# Altium footprint library QFP_Sq_65P_Side_L.PcbLib: 15 footprints
Each footprint in its own frame and in the unit in brackets; x right, y up, seen from the top. Pads: shape width x height; smd on the part's side, far side on the other; paste and mask are expansions set on the pad; w line width, h text height; cw(c..) or ccw(c..) is an arc to the next point about the centre after c.
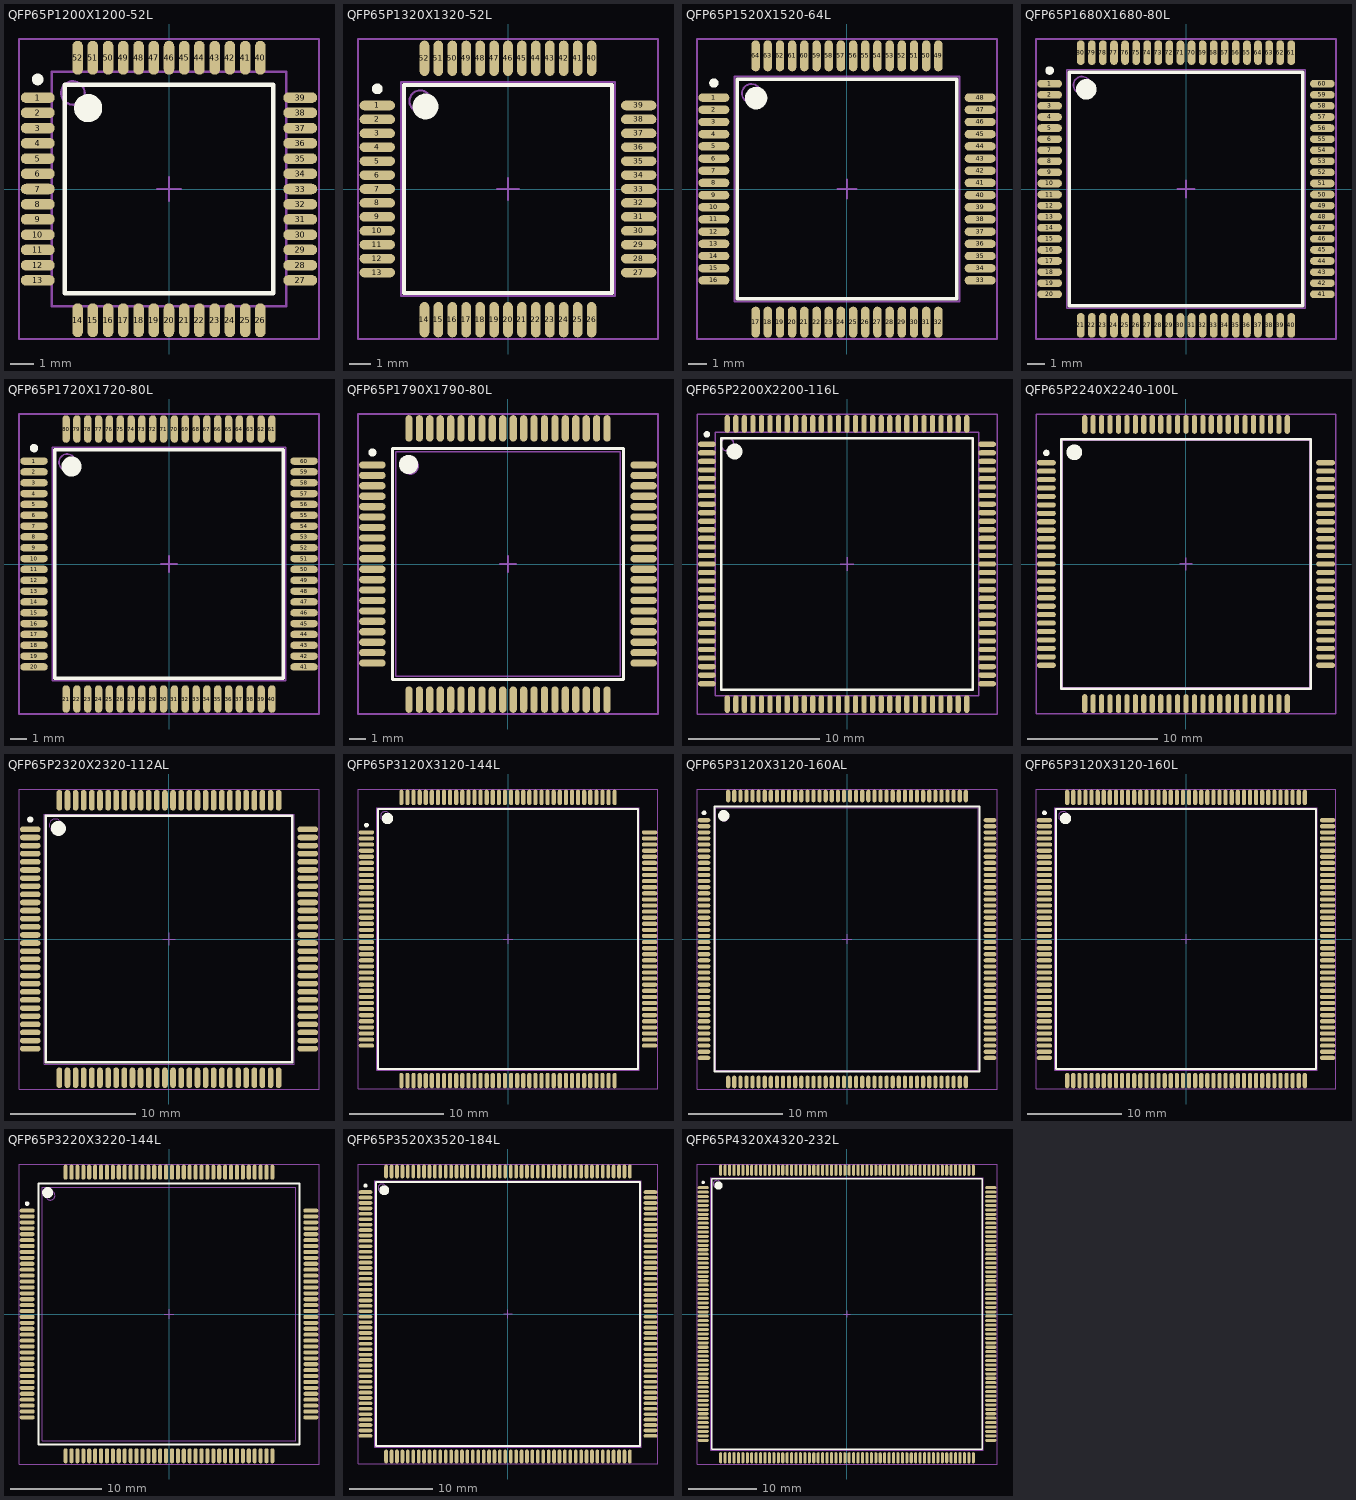
[diagram p0: the footprints below, top view; thin cyan lines are the x and y axes]

## QFP65P1200X1200-52L [mm] "QFP, 52-Leads, Body 10 x 10mm, Pitch 0.65mm, IPC High Density"
height 1.7
pads (52):
  oval 1.45x0.45 smd: 1(-5.6,3.9) 2(-5.6,3.25) 3(-5.6,2.6) 4(-5.6,1.95) 5(-5.6,1.3) 6(-5.6,0.65) 7(-5.6,0) 8(-5.6,-0.65) 9(-5.6,-1.3) 10(-5.6,-1.95) 11(-5.6,-2.6) 12(-5.6,-3.25) 13(-5.6,-3.9) 27(5.6,-3.9) 28(5.6,-3.25) 29(5.6,-2.6) 30(5.6,-1.95) 31(5.6,-1.3) 32(5.6,-0.65) 33(5.6,0) 34(5.6,0.65) 35(5.6,1.3) 36(5.6,1.95) 37(5.6,2.6) 38(5.6,3.25) 39(5.6,3.9)
  oval 0.45x1.45 smd: 14(-3.9,-5.6) 15(-3.25,-5.6) 16(-2.6,-5.6) 17(-1.95,-5.6) 18(-1.3,-5.6) 19(-0.65,-5.6) 20(0,-5.6) 21(0.65,-5.6) 22(1.3,-5.6) 23(1.95,-5.6) 24(2.6,-5.6) 25(3.25,-5.6) 26(3.9,-5.6) 40(3.9,5.6) 41(3.25,5.6) 42(2.6,5.6) 43(1.95,5.6) 44(1.3,5.6) 45(0.65,5.6) 46(0,5.6) 47(-0.65,5.6) 48(-1.3,5.6) 49(-1.95,5.6) 50(-2.6,5.6) 51(-3.25,5.6) 52(-3.9,5.6)
Top Overlay:
  circle w0.25: c-5.6,4.675 r0.125
  circle w0.6: c-3.45,3.45 r0.3
  lines w0.2: -4.45,-4.45 -4.45,4.45 4.45,4.45 4.45,-4.45 -4.45,-4.45
Mechanical 13:
  circle w0.1: c-4.1,4.1 r0.5
  lines w0.1: -5,-5 -5,5 5,5 5,-5 -5,-5
Mechanical 15:
  lines w0.1: -0.5,0 0.5,0 ; 0,-0.5 0,0.5 ; -6.4,-6.4 -6.4,6.4 6.4,6.4 6.4,-6.4 -6.4,-6.4
3D body: height 1.7, standoff 0, extent -5,-5 5,5

## QFP65P1320X1320-52L [mm] "QFP, 52-Leads, Body 10 x 10mm, Pitch 0.65mm, IPC High Density"
height 2.45
pads (52):
  oval 1.65x0.45 smd: 1(-6.1,3.9) 2(-6.1,3.25) 3(-6.1,2.6) 4(-6.1,1.95) 5(-6.1,1.3) 6(-6.1,0.65) 7(-6.1,0) 8(-6.1,-0.65) 9(-6.1,-1.3) 10(-6.1,-1.95) 11(-6.1,-2.6) 12(-6.1,-3.25) 13(-6.1,-3.9) 27(6.1,-3.9) 28(6.1,-3.25) 29(6.1,-2.6) 30(6.1,-1.95) 31(6.1,-1.3) 32(6.1,-0.65) 33(6.1,0) 34(6.1,0.65) 35(6.1,1.3) 36(6.1,1.95) 37(6.1,2.6) 38(6.1,3.25) 39(6.1,3.9)
  oval 0.45x1.65 smd: 14(-3.9,-6.1) 15(-3.25,-6.1) 16(-2.6,-6.1) 17(-1.95,-6.1) 18(-1.3,-6.1) 19(-0.65,-6.1) 20(0,-6.1) 21(0.65,-6.1) 22(1.3,-6.1) 23(1.95,-6.1) 24(2.6,-6.1) 25(3.25,-6.1) 26(3.9,-6.1) 40(3.9,6.1) 41(3.25,6.1) 42(2.6,6.1) 43(1.95,6.1) 44(1.3,6.1) 45(0.65,6.1) 46(0,6.1) 47(-0.65,6.1) 48(-1.3,6.1) 49(-1.95,6.1) 50(-2.6,6.1) 51(-3.25,6.1) 52(-3.9,6.1)
Top Overlay:
  circle w0.6: c-3.85,3.85 r0.3
  circle w0.25: c-6.1,4.675 r0.125
  lines w0.2: -4.85,-4.85 4.85,-4.85 4.85,4.85 -4.85,4.85 -4.85,-4.85
Mechanical 13:
  circle w0.1: c-4.1,4.1 r0.5
  lines w0.1: -5,-5 5,-5 5,5 -5,5 -5,-5
Mechanical 15:
  lines w0.1: -0.5,0 0.5,0 ; 0,-0.5 0,0.5 ; -7,-7 7,-7 7,7 -7,7 -7,-7
3D body: height 2.45, standoff 0, extent -5,-5 5,5

## QFP65P1520X1520-64L [mm] "QFP, 64-Leads, Body 12 x 12 mm, Pitch 0.65mm, IPC High Density"
height 2.45
pads (64):
  oval 1.65x0.45 smd: 1(-7.1,4.875) 2(-7.1,4.225) 3(-7.1,3.575) 4(-7.1,2.925) 5(-7.1,2.275) 6(-7.1,1.625) 7(-7.1,0.975) 8(-7.1,0.325) 9(-7.1,-0.325) 10(-7.1,-0.975) 11(-7.1,-1.625) 12(-7.1,-2.275) 13(-7.1,-2.925) 14(-7.1,-3.575) 15(-7.1,-4.225) 16(-7.1,-4.875) 33(7.1,-4.875) 34(7.1,-4.225) 35(7.1,-3.575) 36(7.1,-2.925) 37(7.1,-2.275) 38(7.1,-1.625) 39(7.1,-0.975) 40(7.1,-0.325) 41(7.1,0.325) 42(7.1,0.975) 43(7.1,1.625) 44(7.1,2.275) 45(7.1,2.925) 46(7.1,3.575) 47(7.1,4.225) 48(7.1,4.875)
  oval 0.45x1.65 smd: 17(-4.875,-7.1) 18(-4.225,-7.1) 19(-3.575,-7.1) 20(-2.925,-7.1) 21(-2.275,-7.1) 22(-1.625,-7.1) 23(-0.975,-7.1) 24(-0.325,-7.1) 25(0.325,-7.1) 26(0.975,-7.1) 27(1.625,-7.1) 28(2.275,-7.1) 29(2.925,-7.1) 30(3.575,-7.1) 31(4.225,-7.1) 32(4.875,-7.1) 49(4.875,7.1) 50(4.225,7.1) 51(3.575,7.1) 52(2.925,7.1) 53(2.275,7.1) 54(1.625,7.1) 55(0.975,7.1) 56(0.325,7.1) 57(-0.325,7.1) 58(-0.975,7.1) 59(-1.625,7.1) 60(-2.275,7.1) 61(-2.925,7.1) 62(-3.575,7.1) 63(-4.225,7.1) 64(-4.875,7.1)
Top Overlay:
  circle w0.6: c-4.85,4.85 r0.3
  circle w0.25: c-7.1,5.65 r0.125
  lines w0.2: -5.85,-5.85 5.85,-5.85 5.85,5.85 -5.85,5.85 -5.85,-5.85
Mechanical 13:
  circle w0.1: c-5.1,5.1 r0.5
  lines w0.1: -6,-6 6,-6 6,6 -6,6 -6,-6
Mechanical 15:
  lines w0.1: -0.5,0 0.5,0 ; 0,-0.5 0,0.5 ; -8,-8 8,-8 8,8 -8,8 -8,-8
3D body: height 2.45, standoff 0, extent -6,-6 6,6

## QFP65P1680X1680-80L [mm] "80-Pin Quad Flat Pack 0.65 mm Pitch"
height 3.05
pads (80):
  oval 1.45x0.45 smd: 1(-8,6.175) 2(-8,5.525) 3(-8,4.875) 4(-8,4.225) 5(-8,3.575) 6(-8,2.925) 7(-8,2.275) 8(-8,1.625) 9(-8,0.975) 10(-8,0.325) 11(-8,-0.325) 12(-8,-0.975) 13(-8,-1.625) 14(-8,-2.275) 15(-8,-2.925) 16(-8,-3.575) 17(-8,-4.225) 18(-8,-4.875) 19(-8,-5.525) 20(-8,-6.175) 41(8,-6.175) 42(8,-5.525) 43(8,-4.875) 44(8,-4.225) 45(8,-3.575) 46(8,-2.925) 47(8,-2.275) 48(8,-1.625) 49(8,-0.975) 50(8,-0.325) 51(8,0.325) 52(8,0.975) 53(8,1.625) 54(8,2.275) 55(8,2.925) 56(8,3.575) 57(8,4.225) 58(8,4.875) 59(8,5.525) 60(8,6.175)
  oval 0.45x1.45 smd: 21(-6.175,-8) 22(-5.525,-8) 23(-4.875,-8) 24(-4.225,-8) 25(-3.575,-8) 26(-2.925,-8) 27(-2.275,-8) 28(-1.625,-8) 29(-0.975,-8) 30(-0.325,-8) 31(0.325,-8) 32(0.975,-8) 33(1.625,-8) 34(2.275,-8) 35(2.925,-8) 36(3.575,-8) 37(4.225,-8) 38(4.875,-8) 39(5.525,-8) 40(6.175,-8) 61(6.175,8) 62(5.525,8) 63(4.875,8) 64(4.225,8) 65(3.575,8) 66(2.925,8) 67(2.275,8) 68(1.625,8) 69(0.975,8) 70(0.325,8) 71(-0.325,8) 72(-0.975,8) 73(-1.625,8) 74(-2.275,8) 75(-2.925,8) 76(-3.575,8) 77(-4.225,8) 78(-4.875,8) 79(-5.525,8) 80(-6.175,8)
Top Overlay:
  circle w0.6: c-5.85,5.85 r0.3
  circle w0.25: c-8,6.95 r0.125
  lines w0.2: -6.85,-6.85 6.85,-6.85 6.85,6.85 -6.85,6.85 -6.85,-6.85
Mechanical 13:
  circle w0.1: c-6.1,6.1 r0.5
  lines w0.1: -7,-7 7,-7 7,7 -7,7 -7,-7
Mechanical 15:
  lines w0.1: -0.5,0 0.5,0 ; 0,-0.5 0,0.5 ; -8.8,-8.8 8.8,-8.8 8.8,8.8 -8.8,8.8 -8.8,-8.8
3D body: height 3.05, standoff 0, extent -7,-7 7,7

## QFP65P1720X1720-80L [mm] "QFP, 80-Leads, Body 14 x 14mm, Pitch 0.65mm, IPC High Density"
height 2.45
pads (80):
  oval 1.65x0.45 smd: 1(-8.1,6.175) 2(-8.1,5.525) 3(-8.1,4.875) 4(-8.1,4.225) 5(-8.1,3.575) 6(-8.1,2.925) 7(-8.1,2.275) 8(-8.1,1.625) 9(-8.1,0.975) 10(-8.1,0.325) 11(-8.1,-0.325) 12(-8.1,-0.975) 13(-8.1,-1.625) 14(-8.1,-2.275) 15(-8.1,-2.925) 16(-8.1,-3.575) 17(-8.1,-4.225) 18(-8.1,-4.875) 19(-8.1,-5.525) 20(-8.1,-6.175) 41(8.1,-6.175) 42(8.1,-5.525) 43(8.1,-4.875) 44(8.1,-4.225) 45(8.1,-3.575) 46(8.1,-2.925) 47(8.1,-2.275) 48(8.1,-1.625) 49(8.1,-0.975) 50(8.1,-0.325) 51(8.1,0.325) 52(8.1,0.975) 53(8.1,1.625) 54(8.1,2.275) 55(8.1,2.925) 56(8.1,3.575) 57(8.1,4.225) 58(8.1,4.875) 59(8.1,5.525) 60(8.1,6.175)
  oval 0.45x1.65 smd: 21(-6.175,-8.1) 22(-5.525,-8.1) 23(-4.875,-8.1) 24(-4.225,-8.1) 25(-3.575,-8.1) 26(-2.925,-8.1) 27(-2.275,-8.1) 28(-1.625,-8.1) 29(-0.975,-8.1) 30(-0.325,-8.1) 31(0.325,-8.1) 32(0.975,-8.1) 33(1.625,-8.1) 34(2.275,-8.1) 35(2.925,-8.1) 36(3.575,-8.1) 37(4.225,-8.1) 38(4.875,-8.1) 39(5.525,-8.1) 40(6.175,-8.1) 61(6.175,8.1) 62(5.525,8.1) 63(4.875,8.1) 64(4.225,8.1) 65(3.575,8.1) 66(2.925,8.1) 67(2.275,8.1) 68(1.625,8.1) 69(0.975,8.1) 70(0.325,8.1) 71(-0.325,8.1) 72(-0.975,8.1) 73(-1.625,8.1) 74(-2.275,8.1) 75(-2.925,8.1) 76(-3.575,8.1) 77(-4.225,8.1) 78(-4.875,8.1) 79(-5.525,8.1) 80(-6.175,8.1)
Top Overlay:
  circle w0.6: c-5.85,5.85 r0.3
  circle w0.25: c-8.1,6.95 r0.125
  lines w0.2: -6.85,-6.85 6.85,-6.85 6.85,6.85 -6.85,6.85 -6.85,-6.85
Mechanical 13:
  circle w0.1: c-6.1,6.1 r0.5
  lines w0.1: -7,-7 7,-7 7,7 -7,7 -7,-7
Mechanical 15:
  lines w0.1: -0.5,0 0.5,0 ; 0,-0.5 0,0.5 ; -9,-9 9,-9 9,9 -9,9 -9,-9
3D body: height 2.45, standoff 0, extent -7,-7 7,7

## QFP65P1790X1790-80L [mm] "QFP, 80-Leads, Body 14 x 14mm, Pitch 0.65mm, IPC High Density"
height 3.4
pads (80):
  oval 1.65x0.45 smd: 1(-8.45,6.175) 2(-8.45,5.525) 3(-8.45,4.875) 4(-8.45,4.225) 5(-8.45,3.575) 6(-8.45,2.925) 7(-8.45,2.275) 8(-8.45,1.625) 9(-8.45,0.975) 10(-8.45,0.325) 11(-8.45,-0.325) 12(-8.45,-0.975) 13(-8.45,-1.625) 14(-8.45,-2.275) 15(-8.45,-2.925) 16(-8.45,-3.575) 17(-8.45,-4.225) 18(-8.45,-4.875) 19(-8.45,-5.525) 20(-8.45,-6.175) 41(8.45,-6.175) 42(8.45,-5.525) 43(8.45,-4.875) 44(8.45,-4.225) 45(8.45,-3.575) 46(8.45,-2.925) 47(8.45,-2.275) 48(8.45,-1.625) 49(8.45,-0.975) 50(8.45,-0.325) 51(8.45,0.325) 52(8.45,0.975) 53(8.45,1.625) 54(8.45,2.275) 55(8.45,2.925) 56(8.45,3.575) 57(8.45,4.225) 58(8.45,4.875) 59(8.45,5.525) 60(8.45,6.175)
  oval 0.45x1.65 smd: 21(-6.175,-8.45) 22(-5.525,-8.45) 23(-4.875,-8.45) 24(-4.225,-8.45) 25(-3.575,-8.45) 26(-2.925,-8.45) 27(-2.275,-8.45) 28(-1.625,-8.45) 29(-0.975,-8.45) 30(-0.325,-8.45) 31(0.325,-8.45) 32(0.975,-8.45) 33(1.625,-8.45) 34(2.275,-8.45) 35(2.925,-8.45) 36(3.575,-8.45) 37(4.225,-8.45) 38(4.875,-8.45) 39(5.525,-8.45) 40(6.175,-8.45) 61(6.175,8.45) 62(5.525,8.45) 63(4.875,8.45) 64(4.225,8.45) 65(3.575,8.45) 66(2.925,8.45) 67(2.275,8.45) 68(1.625,8.45) 69(0.975,8.45) 70(0.325,8.45) 71(-0.325,8.45) 72(-0.975,8.45) 73(-1.625,8.45) 74(-2.275,8.45) 75(-2.925,8.45) 76(-3.575,8.45) 77(-4.225,8.45) 78(-4.875,8.45) 79(-5.525,8.45) 80(-6.175,8.45)
Top Overlay:
  circle w0.6: c-6.2,6.2 r0.3
  circle w0.25: c-8.45,6.95 r0.125
  lines w0.2: -7.2,-7.2 7.2,-7.2 7.2,7.2 -7.2,7.2 -7.2,-7.2
Mechanical 13:
  circle w0.1: c-6.1,6.1 r0.5
  lines w0.1: -7,-7 7,-7 7,7 -7,7 -7,-7
Mechanical 15:
  lines w0.1: -0.5,0 0.5,0 ; 0,-0.5 0,0.5 ; -9.35,-9.35 9.35,-9.35 9.35,9.35 -9.35,9.35 -9.35,-9.35
3D body: height 3.4, standoff 0, extent -7,-7 7,7

## QFP65P2200X2200-116L [mm] "116-Pin Quad Flat Pack 0.65 mm Pitch"
height 1.7
pads (116):
  oval 1.35x0.4 smd: 1(-10.65,9.1) 2(-10.65,8.45) 3(-10.65,7.8) 4(-10.65,7.15) 5(-10.65,6.5) 6(-10.65,5.85) 7(-10.65,5.2) 8(-10.65,4.55) 9(-10.65,3.9) 10(-10.65,3.25) 11(-10.65,2.6) 12(-10.65,1.95) 13(-10.65,1.3) 14(-10.65,0.65) 15(-10.65,0) 16(-10.65,-0.65) 17(-10.65,-1.3) 18(-10.65,-1.95) 19(-10.65,-2.6) 20(-10.65,-3.25) 21(-10.65,-3.9) 22(-10.65,-4.55) 23(-10.65,-5.2) 24(-10.65,-5.85) 25(-10.65,-6.5) 26(-10.65,-7.15) 27(-10.65,-7.8) 28(-10.65,-8.45) 29(-10.65,-9.1) 59(10.65,-9.1) 60(10.65,-8.45) 61(10.65,-7.8) 62(10.65,-7.15) 63(10.65,-6.5) 64(10.65,-5.85) 65(10.65,-5.2) 66(10.65,-4.55) 67(10.65,-3.9) 68(10.65,-3.25) 69(10.65,-2.6) 70(10.65,-1.95) 71(10.65,-1.3) 72(10.65,-0.65) 73(10.65,0) 74(10.65,0.65) 75(10.65,1.3) 76(10.65,1.95) 77(10.65,2.6) 78(10.65,3.25) 79(10.65,3.9) 80(10.65,4.55) 81(10.65,5.2) 82(10.65,5.85) 83(10.65,6.5) 84(10.65,7.15) 85(10.65,7.8) 86(10.65,8.45) 87(10.65,9.1)
  oval 0.4x1.35 smd: 30(-9.1,-10.65) 31(-8.45,-10.65) 32(-7.8,-10.65) 33(-7.15,-10.65) 34(-6.5,-10.65) 35(-5.85,-10.65) 36(-5.2,-10.65) 37(-4.55,-10.65) 38(-3.9,-10.65) 39(-3.25,-10.65) 40(-2.6,-10.65) 41(-1.95,-10.65) 42(-1.3,-10.65) 43(-0.65,-10.65) 44(0,-10.65) 45(0.65,-10.65) 46(1.3,-10.65) 47(1.95,-10.65) 48(2.6,-10.65) 49(3.25,-10.65) 50(3.9,-10.65) 51(4.55,-10.65) 52(5.2,-10.65) 53(5.85,-10.65) 54(6.5,-10.65) 55(7.15,-10.65) 56(7.8,-10.65) 57(8.45,-10.65) 58(9.1,-10.65) 88(9.1,10.65) 89(8.45,10.65) 90(7.8,10.65) 91(7.15,10.65) 92(6.5,10.65) 93(5.85,10.65) 94(5.2,10.65) 95(4.55,10.65) 96(3.9,10.65) 97(3.25,10.65) 98(2.6,10.65) 99(1.95,10.65) 100(1.3,10.65) 101(0.65,10.65) 102(0,10.65) 103(-0.65,10.65) 104(-1.3,10.65) 105(-1.95,10.65) 106(-2.6,10.65) 107(-3.25,10.65) 108(-3.9,10.65) 109(-4.55,10.65) 110(-5.2,10.65) 111(-5.85,10.65) 112(-6.5,10.65) 113(-7.15,10.65) 114(-7.8,10.65) 115(-8.45,10.65) 116(-9.1,10.65)
Top Overlay:
  circle w0.6: c-8.55,8.55 r0.3
  circle w0.25: c-10.65,9.85 r0.125
  lines w0.2: -9.55,-9.55 9.55,-9.55 9.55,9.55 -9.55,9.55 -9.55,-9.55
Mechanical 13:
  circle w0.1: c-9.1,9.1 r0.5
  lines w0.1: -10,-10 10,-10 10,10 -10,10 -10,-10
Mechanical 15:
  lines w0.1: -0.5,0 0.5,0 ; 0,-0.5 0,0.5 ; -11.4,-11.4 11.4,-11.4 11.4,11.4 -11.4,11.4 -11.4,-11.4
3D body: height 1.7, standoff 0, extent -10,-10 10,10

## QFP65P2240X2240-100L [mm] "100-Pin Quad Flat Pack 0.65 mm Pitch"
height 4.07
pads (100):
  oval 1.45x0.4 smd: 1(-10.75,7.8) 2(-10.75,7.15) 3(-10.75,6.5) 4(-10.75,5.85) 5(-10.75,5.2) 6(-10.75,4.55) 7(-10.75,3.9) 8(-10.75,3.25) 9(-10.75,2.6) 10(-10.75,1.95) 11(-10.75,1.3) 12(-10.75,0.65) 13(-10.75,0) 14(-10.75,-0.65) 15(-10.75,-1.3) 16(-10.75,-1.95) 17(-10.75,-2.6) 18(-10.75,-3.25) 19(-10.75,-3.9) 20(-10.75,-4.55) 21(-10.75,-5.2) 22(-10.75,-5.85) 23(-10.75,-6.5) 24(-10.75,-7.15) 25(-10.75,-7.8) 51(10.75,-7.8) 52(10.75,-7.15) 53(10.75,-6.5) 54(10.75,-5.85) 55(10.75,-5.2) 56(10.75,-4.55) 57(10.75,-3.9) 58(10.75,-3.25) 59(10.75,-2.6) 60(10.75,-1.95) 61(10.75,-1.3) 62(10.75,-0.65) 63(10.75,0) 64(10.75,0.65) 65(10.75,1.3) 66(10.75,1.95) 67(10.75,2.6) 68(10.75,3.25) 69(10.75,3.9) 70(10.75,4.55) 71(10.75,5.2) 72(10.75,5.85) 73(10.75,6.5) 74(10.75,7.15) 75(10.75,7.8)
  oval 0.4x1.45 smd: 26(-7.8,-10.75) 27(-7.15,-10.75) 28(-6.5,-10.75) 29(-5.85,-10.75) 30(-5.2,-10.75) 31(-4.55,-10.75) 32(-3.9,-10.75) 33(-3.25,-10.75) 34(-2.6,-10.75) 35(-1.95,-10.75) 36(-1.3,-10.75) 37(-0.65,-10.75) 38(0,-10.75) 39(0.65,-10.75) 40(1.3,-10.75) 41(1.95,-10.75) 42(2.6,-10.75) 43(3.25,-10.75) 44(3.9,-10.75) 45(4.55,-10.75) 46(5.2,-10.75) 47(5.85,-10.75) 48(6.5,-10.75) 49(7.15,-10.75) 50(7.8,-10.75) 76(7.8,10.75) 77(7.15,10.75) 78(6.5,10.75) 79(5.85,10.75) 80(5.2,10.75) 81(4.55,10.75) 82(3.9,10.75) 83(3.25,10.75) 84(2.6,10.75) 85(1.95,10.75) 86(1.3,10.75) 87(0.65,10.75) 88(0,10.75) 89(-0.65,10.75) 90(-1.3,10.75) 91(-1.95,10.75) 92(-2.6,10.75) 93(-3.25,10.75) 94(-3.9,10.75) 95(-4.55,10.75) 96(-5.2,10.75) 97(-5.85,10.75) 98(-6.5,10.75) 99(-7.15,10.75) 100(-7.8,10.75)
Top Overlay:
  circle w0.6: c-8.6,8.6 r0.3
  circle w0.25: c-10.75,8.55 r0.125
  lines w0.2: -9.6,-9.6 9.6,-9.6 9.6,9.6 -9.6,9.6 -9.6,-9.6
Mechanical 13:
  circle w0.1: c-8.625,8.625 r0.5
  lines w0.1: -9.525,-9.525 9.525,-9.525 9.525,9.525 -9.525,9.525 -9.525,-9.525
Mechanical 15:
  lines w0.1: -0.5,0 0.5,0 ; 0,-0.5 0,0.5 ; -11.55,-11.55 11.55,-11.55 11.55,11.55 -11.55,11.55 -11.55,-11.55
3D body: height 4.07, standoff 0, extent -9.525,-9.525 9.525,9.525

## QFP65P2320X2320-112AL [mm] "QFP, 112-Leads, Body 20 x 20mm, Pitch 0.65mm, IPC High Density"
height 3.4
pads (112):
  oval 1.65x0.45 smd: 1(-11.1,8.775) 2(-11.1,8.125) 3(-11.1,7.475) 4(-11.1,6.825) 5(-11.1,6.175) 6(-11.1,5.525) 7(-11.1,4.875) 8(-11.1,4.225) 9(-11.1,3.575) 10(-11.1,2.925) 11(-11.1,2.275) 12(-11.1,1.625) 13(-11.1,0.975) 14(-11.1,0.325) 15(-11.1,-0.325) 16(-11.1,-0.975) 17(-11.1,-1.625) 18(-11.1,-2.275) 19(-11.1,-2.925) 20(-11.1,-3.575) 21(-11.1,-4.225) 22(-11.1,-4.875) 23(-11.1,-5.525) 24(-11.1,-6.175) 25(-11.1,-6.825) 26(-11.1,-7.475) 27(-11.1,-8.125) 28(-11.1,-8.775) 57(11.1,-8.775) 58(11.1,-8.125) 59(11.1,-7.475) 60(11.1,-6.825) 61(11.1,-6.175) 62(11.1,-5.525) 63(11.1,-4.875) 64(11.1,-4.225) 65(11.1,-3.575) 66(11.1,-2.925) 67(11.1,-2.275) 68(11.1,-1.625) 69(11.1,-0.975) 70(11.1,-0.325) 71(11.1,0.325) 72(11.1,0.975) 73(11.1,1.625) 74(11.1,2.275) 75(11.1,2.925) 76(11.1,3.575) 77(11.1,4.225) 78(11.1,4.875) 79(11.1,5.525) 80(11.1,6.175) 81(11.1,6.825) 82(11.1,7.475) 83(11.1,8.125) 84(11.1,8.775)
  oval 0.45x1.65 smd: 29(-8.775,-11.1) 30(-8.125,-11.1) 31(-7.475,-11.1) 32(-6.825,-11.1) 33(-6.175,-11.1) 34(-5.525,-11.1) 35(-4.875,-11.1) 36(-4.225,-11.1) 37(-3.575,-11.1) 38(-2.925,-11.1) 39(-2.275,-11.1) 40(-1.625,-11.1) 41(-0.975,-11.1) 42(-0.325,-11.1) 43(0.325,-11.1) 44(0.975,-11.1) 45(1.625,-11.1) 46(2.275,-11.1) 47(2.925,-11.1) 48(3.575,-11.1) 49(4.225,-11.1) 50(4.875,-11.1) 51(5.525,-11.1) 52(6.175,-11.1) 53(6.825,-11.1) 54(7.475,-11.1) 55(8.125,-11.1) 56(8.775,-11.1) 85(8.775,11.1) 86(8.125,11.1) 87(7.475,11.1) 88(6.825,11.1) 89(6.175,11.1) 90(5.525,11.1) 91(4.875,11.1) 92(4.225,11.1) 93(3.575,11.1) 94(2.925,11.1) 95(2.275,11.1) 96(1.625,11.1) 97(0.975,11.1) 98(0.325,11.1) 99(-0.325,11.1) 100(-0.975,11.1) 101(-1.625,11.1) 102(-2.275,11.1) 103(-2.925,11.1) 104(-3.575,11.1) 105(-4.225,11.1) 106(-4.875,11.1) 107(-5.525,11.1) 108(-6.175,11.1) 109(-6.825,11.1) 110(-7.475,11.1) 111(-8.125,11.1) 112(-8.775,11.1)
Top Overlay:
  circle w0.25: c-11.1,9.55 r0.125
  circle w0.6: c-8.85,8.85 r0.3
  lines w0.2: -9.85,-9.85 -9.85,9.85 9.85,9.85 9.85,-9.85 -9.85,-9.85
Mechanical 13:
  circle w0.1: c-9.1,9.1 r0.5
  lines w0.1: -10,-10 -10,10 10,10 10,-10 -10,-10
Mechanical 15:
  lines w0.1: -0.5,0 0.5,0 ; 0,-0.5 0,0.5 ; -12,-12 -12,12 12,12 12,-12 -12,-12
3D body: height 3.4, standoff 0, extent -10,-10 10,10

## QFP65P3120X3120-144L [mm] "QFP, 144-Leads, Body 28 x 28mm, Pitch 0.65mm, IPC High Density"
height 4.1
pads (144):
  oval 1.65x0.45 smd: 1(-15.1,11.375) 2(-15.1,10.725) 3(-15.1,10.075) 4(-15.1,9.425) 5(-15.1,8.775) 6(-15.1,8.125) 7(-15.1,7.475) 8(-15.1,6.825) 9(-15.1,6.175) 10(-15.1,5.525) 11(-15.1,4.875) 12(-15.1,4.225) 13(-15.1,3.575) 14(-15.1,2.925) 15(-15.1,2.275) 16(-15.1,1.625) 17(-15.1,0.975) 18(-15.1,0.325) 19(-15.1,-0.325) 20(-15.1,-0.975) 21(-15.1,-1.625) 22(-15.1,-2.275) 23(-15.1,-2.925) 24(-15.1,-3.575) 25(-15.1,-4.225) 26(-15.1,-4.875) 27(-15.1,-5.525) 28(-15.1,-6.175) 29(-15.1,-6.825) 30(-15.1,-7.475) 31(-15.1,-8.125) 32(-15.1,-8.775) 33(-15.1,-9.425) 34(-15.1,-10.075) 35(-15.1,-10.725) 36(-15.1,-11.375) 73(15.1,-11.375) 74(15.1,-10.725) 75(15.1,-10.075) 76(15.1,-9.425) 77(15.1,-8.775) 78(15.1,-8.125) 79(15.1,-7.475) 80(15.1,-6.825) 81(15.1,-6.175) 82(15.1,-5.525) 83(15.1,-4.875) 84(15.1,-4.225) 85(15.1,-3.575) 86(15.1,-2.925) 87(15.1,-2.275) 88(15.1,-1.625) 89(15.1,-0.975) 90(15.1,-0.325) 91(15.1,0.325) 92(15.1,0.975) 93(15.1,1.625) 94(15.1,2.275) 95(15.1,2.925) 96(15.1,3.575) 97(15.1,4.225) 98(15.1,4.875) 99(15.1,5.525) 100(15.1,6.175) 101(15.1,6.825) 102(15.1,7.475) 103(15.1,8.125) 104(15.1,8.775) 105(15.1,9.425) 106(15.1,10.075) 107(15.1,10.725) 108(15.1,11.375)
  oval 0.45x1.65 smd: 37(-11.375,-15.1) 38(-10.725,-15.1) 39(-10.075,-15.1) 40(-9.425,-15.1) 41(-8.775,-15.1) 42(-8.125,-15.1) 43(-7.475,-15.1) 44(-6.825,-15.1) 45(-6.175,-15.1) 46(-5.525,-15.1) 47(-4.875,-15.1) 48(-4.225,-15.1) 49(-3.575,-15.1) 50(-2.925,-15.1) 51(-2.275,-15.1) 52(-1.625,-15.1) 53(-0.975,-15.1) 54(-0.325,-15.1) 55(0.325,-15.1) 56(0.975,-15.1) 57(1.625,-15.1) 58(2.275,-15.1) 59(2.925,-15.1) 60(3.575,-15.1) 61(4.225,-15.1) 62(4.875,-15.1) 63(5.525,-15.1) 64(6.175,-15.1) 65(6.825,-15.1) 66(7.475,-15.1) 67(8.125,-15.1) 68(8.775,-15.1) 69(9.425,-15.1) 70(10.075,-15.1) 71(10.725,-15.1) 72(11.375,-15.1) 109(11.375,15.1) 110(10.725,15.1) 111(10.075,15.1) 112(9.425,15.1) 113(8.775,15.1) 114(8.125,15.1) 115(7.475,15.1) 116(6.825,15.1) 117(6.175,15.1) 118(5.525,15.1) 119(4.875,15.1) 120(4.225,15.1) 121(3.575,15.1) 122(2.925,15.1) 123(2.275,15.1) 124(1.625,15.1) 125(0.975,15.1) 126(0.325,15.1) 127(-0.325,15.1) 128(-0.975,15.1) 129(-1.625,15.1) 130(-2.275,15.1) 131(-2.925,15.1) 132(-3.575,15.1) 133(-4.225,15.1) 134(-4.875,15.1) 135(-5.525,15.1) 136(-6.175,15.1) 137(-6.825,15.1) 138(-7.475,15.1) 139(-8.125,15.1) 140(-8.775,15.1) 141(-9.425,15.1) 142(-10.075,15.1) 143(-10.725,15.1) 144(-11.375,15.1)
Top Overlay:
  circle w0.6: c-12.85,12.85 r0.3
  circle w0.25: c-15.1,12.15 r0.125
  lines w0.2: -13.85,-13.85 13.85,-13.85 13.85,13.85 -13.85,13.85 -13.85,-13.85
Mechanical 13:
  circle w0.1: c-13.1,13.1 r0.5
  lines w0.1: -14,-14 14,-14 14,14 -14,14 -14,-14
Mechanical 15:
  lines w0.1: -0.5,0 0.5,0 ; 0,-0.5 0,0.5 ; -16,-16 16,-16 16,16 -16,16 -16,-16
3D body: height 4.1, standoff 0, extent -14,-14 14,14

## QFP65P3120X3120-160AL [mm] "QFP, 160-Leads, Body 28 x 28mm, Pitch 0.65mm, IPC High Density"
height 2.79
pads (160):
  oval 1.35x0.45 smd: 1(-15.25,12.675) 2(-15.25,12.025) 3(-15.25,11.375) 4(-15.25,10.725) 5(-15.25,10.075) 6(-15.25,9.425) 7(-15.25,8.775) 8(-15.25,8.125) 9(-15.25,7.475) 10(-15.25,6.825) 11(-15.25,6.175) 12(-15.25,5.525) 13(-15.25,4.875) 14(-15.25,4.225) 15(-15.25,3.575) 16(-15.25,2.925) 17(-15.25,2.275) 18(-15.25,1.625) 19(-15.25,0.975) 20(-15.25,0.325) 21(-15.25,-0.325) 22(-15.25,-0.975) 23(-15.25,-1.625) 24(-15.25,-2.275) 25(-15.25,-2.925) 26(-15.25,-3.575) 27(-15.25,-4.225) 28(-15.25,-4.875) 29(-15.25,-5.525) 30(-15.25,-6.175) 31(-15.25,-6.825) 32(-15.25,-7.475) 33(-15.25,-8.125) 34(-15.25,-8.775) 35(-15.25,-9.425) 36(-15.25,-10.075) 37(-15.25,-10.725) 38(-15.25,-11.375) 39(-15.25,-12.025) 40(-15.25,-12.675) 81(15.25,-12.675) 82(15.25,-12.025) 83(15.25,-11.375) 84(15.25,-10.725) 85(15.25,-10.075) 86(15.25,-9.425) 87(15.25,-8.775) 88(15.25,-8.125) 89(15.25,-7.475) 90(15.25,-6.825) 91(15.25,-6.175) 92(15.25,-5.525) 93(15.25,-4.875) 94(15.25,-4.225) 95(15.25,-3.575) 96(15.25,-2.925) 97(15.25,-2.275) 98(15.25,-1.625) 99(15.25,-0.975) 100(15.25,-0.325) 101(15.25,0.325) 102(15.25,0.975) 103(15.25,1.625) 104(15.25,2.275) 105(15.25,2.925) 106(15.25,3.575) 107(15.25,4.225) 108(15.25,4.875) 109(15.25,5.525) 110(15.25,6.175) 111(15.25,6.825) 112(15.25,7.475) 113(15.25,8.125) 114(15.25,8.775) 115(15.25,9.425) 116(15.25,10.075) 117(15.25,10.725) 118(15.25,11.375) 119(15.25,12.025) 120(15.25,12.675)
  oval 0.45x1.35 smd: 41(-12.675,-15.25) 42(-12.025,-15.25) 43(-11.375,-15.25) 44(-10.725,-15.25) 45(-10.075,-15.25) 46(-9.425,-15.25) 47(-8.775,-15.25) 48(-8.125,-15.25) 49(-7.475,-15.25) 50(-6.825,-15.25) 51(-6.175,-15.25) 52(-5.525,-15.25) 53(-4.875,-15.25) 54(-4.225,-15.25) 55(-3.575,-15.25) 56(-2.925,-15.25) 57(-2.275,-15.25) 58(-1.625,-15.25) 59(-0.975,-15.25) 60(-0.325,-15.25) 61(0.325,-15.25) 62(0.975,-15.25) 63(1.625,-15.25) 64(2.275,-15.25) 65(2.925,-15.25) 66(3.575,-15.25) 67(4.225,-15.25) 68(4.875,-15.25) 69(5.525,-15.25) 70(6.175,-15.25) 71(6.825,-15.25) 72(7.475,-15.25) 73(8.125,-15.25) 74(8.775,-15.25) 75(9.425,-15.25) 76(10.075,-15.25) 77(10.725,-15.25) 78(11.375,-15.25) 79(12.025,-15.25) 80(12.675,-15.25) 121(12.675,15.25) 122(12.025,15.25) 123(11.375,15.25) 124(10.725,15.25) 125(10.075,15.25) 126(9.425,15.25) 127(8.775,15.25) 128(8.125,15.25) 129(7.475,15.25) 130(6.825,15.25) 131(6.175,15.25) 132(5.525,15.25) 133(4.875,15.25) 134(4.225,15.25) 135(3.575,15.25) 136(2.925,15.25) 137(2.275,15.25) 138(1.625,15.25) 139(0.975,15.25) 140(0.325,15.25) 141(-0.325,15.25) 142(-0.975,15.25) 143(-1.625,15.25) 144(-2.275,15.25) 145(-2.925,15.25) 146(-3.575,15.25) 147(-4.225,15.25) 148(-4.875,15.25) 149(-5.525,15.25) 150(-6.175,15.25) 151(-6.825,15.25) 152(-7.475,15.25) 153(-8.125,15.25) 154(-8.775,15.25) 155(-9.425,15.25) 156(-10.075,15.25) 157(-10.725,15.25) 158(-11.375,15.25) 159(-12.025,15.25) 160(-12.675,15.25)
Top Overlay:
  circle w0.6: c-13.15,13.15 r0.3
  circle w0.25: c-15.25,13.45 r0.125
  lines w0.2: -14.15,-14.15 14.15,-14.15 14.15,14.15 -14.15,14.15 -14.15,-14.15
Mechanical 13:
  circle w0.1: c-13.1,13.1 r0.5
  lines w0.1: -14,-14 14,-14 14,14 -14,14 -14,-14
Mechanical 15:
  lines w0.1: -0.5,0 0.5,0 ; 0,-0.5 0,0.5 ; -16,-16 16,-16 16,16 -16,16 -16,-16
3D body: height 2.79, standoff 0, extent -14,-14 14,14

## QFP65P3120X3120-160L [mm] "QFP, 160-Leads, Body 28 x 28mm, Pitch 0.65mm, IPC High Density"
height 4.1
pads (160):
  oval 1.65x0.45 smd: 1(-15.1,12.675) 2(-15.1,12.025) 3(-15.1,11.375) 4(-15.1,10.725) 5(-15.1,10.075) 6(-15.1,9.425) 7(-15.1,8.775) 8(-15.1,8.125) 9(-15.1,7.475) 10(-15.1,6.825) 11(-15.1,6.175) 12(-15.1,5.525) 13(-15.1,4.875) 14(-15.1,4.225) 15(-15.1,3.575) 16(-15.1,2.925) 17(-15.1,2.275) 18(-15.1,1.625) 19(-15.1,0.975) 20(-15.1,0.325) 21(-15.1,-0.325) 22(-15.1,-0.975) 23(-15.1,-1.625) 24(-15.1,-2.275) 25(-15.1,-2.925) 26(-15.1,-3.575) 27(-15.1,-4.225) 28(-15.1,-4.875) 29(-15.1,-5.525) 30(-15.1,-6.175) 31(-15.1,-6.825) 32(-15.1,-7.475) 33(-15.1,-8.125) 34(-15.1,-8.775) 35(-15.1,-9.425) 36(-15.1,-10.075) 37(-15.1,-10.725) 38(-15.1,-11.375) 39(-15.1,-12.025) 40(-15.1,-12.675) 81(15.1,-12.675) 82(15.1,-12.025) 83(15.1,-11.375) 84(15.1,-10.725) 85(15.1,-10.075) 86(15.1,-9.425) 87(15.1,-8.775) 88(15.1,-8.125) 89(15.1,-7.475) 90(15.1,-6.825) 91(15.1,-6.175) 92(15.1,-5.525) 93(15.1,-4.875) 94(15.1,-4.225) 95(15.1,-3.575) 96(15.1,-2.925) 97(15.1,-2.275) 98(15.1,-1.625) 99(15.1,-0.975) 100(15.1,-0.325) 101(15.1,0.325) 102(15.1,0.975) 103(15.1,1.625) 104(15.1,2.275) 105(15.1,2.925) 106(15.1,3.575) 107(15.1,4.225) 108(15.1,4.875) 109(15.1,5.525) 110(15.1,6.175) 111(15.1,6.825) 112(15.1,7.475) 113(15.1,8.125) 114(15.1,8.775) 115(15.1,9.425) 116(15.1,10.075) 117(15.1,10.725) 118(15.1,11.375) 119(15.1,12.025) 120(15.1,12.675)
  oval 0.45x1.65 smd: 41(-12.675,-15.1) 42(-12.025,-15.1) 43(-11.375,-15.1) 44(-10.725,-15.1) 45(-10.075,-15.1) 46(-9.425,-15.1) 47(-8.775,-15.1) 48(-8.125,-15.1) 49(-7.475,-15.1) 50(-6.825,-15.1) 51(-6.175,-15.1) 52(-5.525,-15.1) 53(-4.875,-15.1) 54(-4.225,-15.1) 55(-3.575,-15.1) 56(-2.925,-15.1) 57(-2.275,-15.1) 58(-1.625,-15.1) 59(-0.975,-15.1) 60(-0.325,-15.1) 61(0.325,-15.1) 62(0.975,-15.1) 63(1.625,-15.1) 64(2.275,-15.1) 65(2.925,-15.1) 66(3.575,-15.1) 67(4.225,-15.1) 68(4.875,-15.1) 69(5.525,-15.1) 70(6.175,-15.1) 71(6.825,-15.1) 72(7.475,-15.1) 73(8.125,-15.1) 74(8.775,-15.1) 75(9.425,-15.1) 76(10.075,-15.1) 77(10.725,-15.1) 78(11.375,-15.1) 79(12.025,-15.1) 80(12.675,-15.1) 121(12.675,15.1) 122(12.025,15.1) 123(11.375,15.1) 124(10.725,15.1) 125(10.075,15.1) 126(9.425,15.1) 127(8.775,15.1) 128(8.125,15.1) 129(7.475,15.1) 130(6.825,15.1) 131(6.175,15.1) 132(5.525,15.1) 133(4.875,15.1) 134(4.225,15.1) 135(3.575,15.1) 136(2.925,15.1) 137(2.275,15.1) 138(1.625,15.1) 139(0.975,15.1) 140(0.325,15.1) 141(-0.325,15.1) 142(-0.975,15.1) 143(-1.625,15.1) 144(-2.275,15.1) 145(-2.925,15.1) 146(-3.575,15.1) 147(-4.225,15.1) 148(-4.875,15.1) 149(-5.525,15.1) 150(-6.175,15.1) 151(-6.825,15.1) 152(-7.475,15.1) 153(-8.125,15.1) 154(-8.775,15.1) 155(-9.425,15.1) 156(-10.075,15.1) 157(-10.725,15.1) 158(-11.375,15.1) 159(-12.025,15.1) 160(-12.675,15.1)
Top Overlay:
  circle w0.6: c-12.85,12.85 r0.3
  circle w0.25: c-15.1,13.45 r0.125
  lines w0.2: -13.85,-13.85 13.85,-13.85 13.85,13.85 -13.85,13.85 -13.85,-13.85
Mechanical 13:
  circle w0.1: c-13.1,13.1 r0.5
  lines w0.1: -14,-14 14,-14 14,14 -14,14 -14,-14
Mechanical 15:
  lines w0.1: -0.5,0 0.5,0 ; 0,-0.5 0,0.5 ; -16,-16 16,-16 16,16 -16,16 -16,-16
3D body: height 4.1, standoff 0, extent -14,-14 14,14

## QFP65P3220X3220-144L [mm] "QFP, 144-Leads, Body 28 x 28mm, Pitch 0.65mm, IPC High Density"
height 3.93
pads (144):
  oval 1.65x0.45 smd: 1(-15.6,11.375) 2(-15.6,10.725) 3(-15.6,10.075) 4(-15.6,9.425) 5(-15.6,8.775) 6(-15.6,8.125) 7(-15.6,7.475) 8(-15.6,6.825) 9(-15.6,6.175) 10(-15.6,5.525) 11(-15.6,4.875) 12(-15.6,4.225) 13(-15.6,3.575) 14(-15.6,2.925) 15(-15.6,2.275) 16(-15.6,1.625) 17(-15.6,0.975) 18(-15.6,0.325) 19(-15.6,-0.325) 20(-15.6,-0.975) 21(-15.6,-1.625) 22(-15.6,-2.275) 23(-15.6,-2.925) 24(-15.6,-3.575) 25(-15.6,-4.225) 26(-15.6,-4.875) 27(-15.6,-5.525) 28(-15.6,-6.175) 29(-15.6,-6.825) 30(-15.6,-7.475) 31(-15.6,-8.125) 32(-15.6,-8.775) 33(-15.6,-9.425) 34(-15.6,-10.075) 35(-15.6,-10.725) 36(-15.6,-11.375) 73(15.6,-11.375) 74(15.6,-10.725) 75(15.6,-10.075) 76(15.6,-9.425) 77(15.6,-8.775) 78(15.6,-8.125) 79(15.6,-7.475) 80(15.6,-6.825) 81(15.6,-6.175) 82(15.6,-5.525) 83(15.6,-4.875) 84(15.6,-4.225) 85(15.6,-3.575) 86(15.6,-2.925) 87(15.6,-2.275) 88(15.6,-1.625) 89(15.6,-0.975) 90(15.6,-0.325) 91(15.6,0.325) 92(15.6,0.975) 93(15.6,1.625) 94(15.6,2.275) 95(15.6,2.925) 96(15.6,3.575) 97(15.6,4.225) 98(15.6,4.875) 99(15.6,5.525) 100(15.6,6.175) 101(15.6,6.825) 102(15.6,7.475) 103(15.6,8.125) 104(15.6,8.775) 105(15.6,9.425) 106(15.6,10.075) 107(15.6,10.725) 108(15.6,11.375)
  oval 0.45x1.65 smd: 37(-11.375,-15.6) 38(-10.725,-15.6) 39(-10.075,-15.6) 40(-9.425,-15.6) 41(-8.775,-15.6) 42(-8.125,-15.6) 43(-7.475,-15.6) 44(-6.825,-15.6) 45(-6.175,-15.6) 46(-5.525,-15.6) 47(-4.875,-15.6) 48(-4.225,-15.6) 49(-3.575,-15.6) 50(-2.925,-15.6) 51(-2.275,-15.6) 52(-1.625,-15.6) 53(-0.975,-15.6) 54(-0.325,-15.6) 55(0.325,-15.6) 56(0.975,-15.6) 57(1.625,-15.6) 58(2.275,-15.6) 59(2.925,-15.6) 60(3.575,-15.6) 61(4.225,-15.6) 62(4.875,-15.6) 63(5.525,-15.6) 64(6.175,-15.6) 65(6.825,-15.6) 66(7.475,-15.6) 67(8.125,-15.6) 68(8.775,-15.6) 69(9.425,-15.6) 70(10.075,-15.6) 71(10.725,-15.6) 72(11.375,-15.6) 109(11.375,15.6) 110(10.725,15.6) 111(10.075,15.6) 112(9.425,15.6) 113(8.775,15.6) 114(8.125,15.6) 115(7.475,15.6) 116(6.825,15.6) 117(6.175,15.6) 118(5.525,15.6) 119(4.875,15.6) 120(4.225,15.6) 121(3.575,15.6) 122(2.925,15.6) 123(2.275,15.6) 124(1.625,15.6) 125(0.975,15.6) 126(0.325,15.6) 127(-0.325,15.6) 128(-0.975,15.6) 129(-1.625,15.6) 130(-2.275,15.6) 131(-2.925,15.6) 132(-3.575,15.6) 133(-4.225,15.6) 134(-4.875,15.6) 135(-5.525,15.6) 136(-6.175,15.6) 137(-6.825,15.6) 138(-7.475,15.6) 139(-8.125,15.6) 140(-8.775,15.6) 141(-9.425,15.6) 142(-10.075,15.6) 143(-10.725,15.6) 144(-11.375,15.6)
Top Overlay:
  circle w0.6: c-13.35,13.35 r0.3
  circle w0.25: c-15.6,12.15 r0.125
  lines w0.2: -14.35,-14.35 14.35,-14.35 14.35,14.35 -14.35,14.35 -14.35,-14.35
Mechanical 13:
  circle w0.1: c-13.035,13.035 r0.5
  lines w0.1: -13.935,-13.935 13.935,-13.935 13.935,13.935 -13.935,13.935 -13.935,-13.935
Mechanical 15:
  lines w0.1: -0.5,0 0.5,0 ; 0,-0.5 0,0.5 ; -16.5,-16.5 16.5,-16.5 16.5,16.5 -16.5,16.5 -16.5,-16.5
3D body: height 3.93, standoff 0, extent -13.935,-13.935 13.935,13.935

## QFP65P3520X3520-184L [mm] "QFP, 184-Leads, Body 32 x 32 mm, Pitch 0.65mm, IPC High Density"
height 4.2
pads (184):
  oval 1.65x0.45 smd: 1(-17.1,14.625) 2(-17.1,13.975) 3(-17.1,13.325) 4(-17.1,12.675) 5(-17.1,12.025) 6(-17.1,11.375) 7(-17.1,10.725) 8(-17.1,10.075) 9(-17.1,9.425) 10(-17.1,8.775) 11(-17.1,8.125) 12(-17.1,7.475) 13(-17.1,6.825) 14(-17.1,6.175) 15(-17.1,5.525) 16(-17.1,4.875) 17(-17.1,4.225) 18(-17.1,3.575) 19(-17.1,2.925) 20(-17.1,2.275) 21(-17.1,1.625) 22(-17.1,0.975) 23(-17.1,0.325) 24(-17.1,-0.325) 25(-17.1,-0.975) 26(-17.1,-1.625) 27(-17.1,-2.275) 28(-17.1,-2.925) 29(-17.1,-3.575) 30(-17.1,-4.225) 31(-17.1,-4.875) 32(-17.1,-5.525) 33(-17.1,-6.175) 34(-17.1,-6.825) 35(-17.1,-7.475) 36(-17.1,-8.125) 37(-17.1,-8.775) 38(-17.1,-9.425) 39(-17.1,-10.075) 40(-17.1,-10.725) 41(-17.1,-11.375) 42(-17.1,-12.025) 43(-17.1,-12.675) 44(-17.1,-13.325) 45(-17.1,-13.975) 46(-17.1,-14.625) 93(17.1,-14.625) 94(17.1,-13.975) 95(17.1,-13.325) 96(17.1,-12.675) 97(17.1,-12.025) 98(17.1,-11.375) 99(17.1,-10.725) 100(17.1,-10.075) 101(17.1,-9.425) 102(17.1,-8.775) 103(17.1,-8.125) 104(17.1,-7.475) 105(17.1,-6.825) 106(17.1,-6.175) 107(17.1,-5.525) 108(17.1,-4.875) 109(17.1,-4.225) 110(17.1,-3.575) 111(17.1,-2.925) 112(17.1,-2.275) 113(17.1,-1.625) 114(17.1,-0.975) 115(17.1,-0.325) 116(17.1,0.325) 117(17.1,0.975) 118(17.1,1.625) 119(17.1,2.275) 120(17.1,2.925) 121(17.1,3.575) 122(17.1,4.225) 123(17.1,4.875) 124(17.1,5.525) 125(17.1,6.175) 126(17.1,6.825) 127(17.1,7.475) 128(17.1,8.125) 129(17.1,8.775) 130(17.1,9.425) 131(17.1,10.075) 132(17.1,10.725) 133(17.1,11.375) 134(17.1,12.025) 135(17.1,12.675) 136(17.1,13.325) 137(17.1,13.975) 138(17.1,14.625)
  oval 0.45x1.65 smd: 47(-14.625,-17.1) 48(-13.975,-17.1) 49(-13.325,-17.1) 50(-12.675,-17.1) 51(-12.025,-17.1) 52(-11.375,-17.1) 53(-10.725,-17.1) 54(-10.075,-17.1) 55(-9.425,-17.1) 56(-8.775,-17.1) 57(-8.125,-17.1) 58(-7.475,-17.1) 59(-6.825,-17.1) 60(-6.175,-17.1) 61(-5.525,-17.1) 62(-4.875,-17.1) 63(-4.225,-17.1) 64(-3.575,-17.1) 65(-2.925,-17.1) 66(-2.275,-17.1) 67(-1.625,-17.1) 68(-0.975,-17.1) 69(-0.325,-17.1) 70(0.325,-17.1) 71(0.975,-17.1) 72(1.625,-17.1) 73(2.275,-17.1) 74(2.925,-17.1) 75(3.575,-17.1) 76(4.225,-17.1) 77(4.875,-17.1) 78(5.525,-17.1) 79(6.175,-17.1) 80(6.825,-17.1) 81(7.475,-17.1) 82(8.125,-17.1) 83(8.775,-17.1) 84(9.425,-17.1) 85(10.075,-17.1) 86(10.725,-17.1) 87(11.375,-17.1) 88(12.025,-17.1) 89(12.675,-17.1) 90(13.325,-17.1) 91(13.975,-17.1) 92(14.625,-17.1) 139(14.625,17.1) 140(13.975,17.1) 141(13.325,17.1) 142(12.675,17.1) 143(12.025,17.1) 144(11.375,17.1) 145(10.725,17.1) 146(10.075,17.1) 147(9.425,17.1) 148(8.775,17.1) 149(8.125,17.1) 150(7.475,17.1) 151(6.825,17.1) 152(6.175,17.1) 153(5.525,17.1) 154(4.875,17.1) 155(4.225,17.1) 156(3.575,17.1) 157(2.925,17.1) 158(2.275,17.1) 159(1.625,17.1) 160(0.975,17.1) 161(0.325,17.1) 162(-0.325,17.1) 163(-0.975,17.1) 164(-1.625,17.1) 165(-2.275,17.1) 166(-2.925,17.1) 167(-3.575,17.1) 168(-4.225,17.1) 169(-4.875,17.1) 170(-5.525,17.1) 171(-6.175,17.1) 172(-6.825,17.1) 173(-7.475,17.1) 174(-8.125,17.1) 175(-8.775,17.1) 176(-9.425,17.1) 177(-10.075,17.1) 178(-10.725,17.1) 179(-11.375,17.1) 180(-12.025,17.1) 181(-12.675,17.1) 182(-13.325,17.1) 183(-13.975,17.1) 184(-14.625,17.1)
Top Overlay:
  circle w0.6: c-14.85,14.85 r0.3
  circle w0.25: c-17.1,15.4 r0.125
  lines w0.2: -15.85,-15.85 15.85,-15.85 15.85,15.85 -15.85,15.85 -15.85,-15.85
Mechanical 13:
  circle w0.1: c-15.1,15.1 r0.5
  lines w0.1: -16,-16 16,-16 16,16 -16,16 -16,-16
Mechanical 15:
  lines w0.1: -0.5,0 0.5,0 ; 0,-0.5 0,0.5 ; -18,-18 18,-18 18,18 -18,18 -18,-18
3D body: height 4.2, standoff 0, extent -16,-16 16,16

## QFP65P4320X4320-232L [mm] "QFP, 232-Leads, Body 40 x 40 mm, Pitch 0.65mm, IPC High Density"
height 4.2
pads (232):
  oval 1.65x0.45 smd: 1(-21.1,18.525) 2(-21.1,17.875) 3(-21.1,17.225) 4(-21.1,16.575) 5(-21.1,15.925) 6(-21.1,15.275) 7(-21.1,14.625) 8(-21.1,13.975) 9(-21.1,13.325) 10(-21.1,12.675) 11(-21.1,12.025) 12(-21.1,11.375) 13(-21.1,10.725) 14(-21.1,10.075) 15(-21.1,9.425) 16(-21.1,8.775) 17(-21.1,8.125) 18(-21.1,7.475) 19(-21.1,6.825) 20(-21.1,6.175) 21(-21.1,5.525) 22(-21.1,4.875) 23(-21.1,4.225) 24(-21.1,3.575) 25(-21.1,2.925) 26(-21.1,2.275) 27(-21.1,1.625) 28(-21.1,0.975) 29(-21.1,0.325) 30(-21.1,-0.325) 31(-21.1,-0.975) 32(-21.1,-1.625) 33(-21.1,-2.275) 34(-21.1,-2.925) 35(-21.1,-3.575) 36(-21.1,-4.225) 37(-21.1,-4.875) 38(-21.1,-5.525) 39(-21.1,-6.175) 40(-21.1,-6.825) 41(-21.1,-7.475) 42(-21.1,-8.125) 43(-21.1,-8.775) 44(-21.1,-9.425) 45(-21.1,-10.075) 46(-21.1,-10.725) 47(-21.1,-11.375) 48(-21.1,-12.025) 49(-21.1,-12.675) 50(-21.1,-13.325) 51(-21.1,-13.975) 52(-21.1,-14.625) 53(-21.1,-15.275) 54(-21.1,-15.925) 55(-21.1,-16.575) 56(-21.1,-17.225) 57(-21.1,-17.875) 58(-21.1,-18.525) 117(21.1,-18.525) 118(21.1,-17.875) 119(21.1,-17.225) 120(21.1,-16.575) 121(21.1,-15.925) 122(21.1,-15.275) 123(21.1,-14.625) 124(21.1,-13.975) 125(21.1,-13.325) 126(21.1,-12.675) 127(21.1,-12.025) 128(21.1,-11.375) 129(21.1,-10.725) 130(21.1,-10.075) 131(21.1,-9.425) 132(21.1,-8.775) 133(21.1,-8.125) 134(21.1,-7.475) 135(21.1,-6.825) 136(21.1,-6.175) 137(21.1,-5.525) 138(21.1,-4.875) 139(21.1,-4.225) 140(21.1,-3.575) 141(21.1,-2.925) 142(21.1,-2.275) 143(21.1,-1.625) 144(21.1,-0.975) 145(21.1,-0.325) 146(21.1,0.325) 147(21.1,0.975) 148(21.1,1.625) 149(21.1,2.275) 150(21.1,2.925) 151(21.1,3.575) 152(21.1,4.225) 153(21.1,4.875) 154(21.1,5.525) 155(21.1,6.175) 156(21.1,6.825) 157(21.1,7.475) 158(21.1,8.125) 159(21.1,8.775) 160(21.1,9.425) 161(21.1,10.075) 162(21.1,10.725) 163(21.1,11.375) 164(21.1,12.025) 165(21.1,12.675) 166(21.1,13.325) 167(21.1,13.975) 168(21.1,14.625) 169(21.1,15.275) 170(21.1,15.925) 171(21.1,16.575) 172(21.1,17.225) 173(21.1,17.875) 174(21.1,18.525)
  oval 0.45x1.65 smd: 59(-18.525,-21.1) 60(-17.875,-21.1) 61(-17.225,-21.1) 62(-16.575,-21.1) 63(-15.925,-21.1) 64(-15.275,-21.1) 65(-14.625,-21.1) 66(-13.975,-21.1) 67(-13.325,-21.1) 68(-12.675,-21.1) 69(-12.025,-21.1) 70(-11.375,-21.1) 71(-10.725,-21.1) 72(-10.075,-21.1) 73(-9.425,-21.1) 74(-8.775,-21.1) 75(-8.125,-21.1) 76(-7.475,-21.1) 77(-6.825,-21.1) 78(-6.175,-21.1) 79(-5.525,-21.1) 80(-4.875,-21.1) 81(-4.225,-21.1) 82(-3.575,-21.1) 83(-2.925,-21.1) 84(-2.275,-21.1) 85(-1.625,-21.1) 86(-0.975,-21.1) 87(-0.325,-21.1) 88(0.325,-21.1) 89(0.975,-21.1) 90(1.625,-21.1) 91(2.275,-21.1) 92(2.925,-21.1) 93(3.575,-21.1) 94(4.225,-21.1) 95(4.875,-21.1) 96(5.525,-21.1) 97(6.175,-21.1) 98(6.825,-21.1) 99(7.475,-21.1) 100(8.125,-21.1) 101(8.775,-21.1) 102(9.425,-21.1) 103(10.075,-21.1) 104(10.725,-21.1) 105(11.375,-21.1) 106(12.025,-21.1) 107(12.675,-21.1) 108(13.325,-21.1) 109(13.975,-21.1) 110(14.625,-21.1) 111(15.275,-21.1) 112(15.925,-21.1) 113(16.575,-21.1) 114(17.225,-21.1) 115(17.875,-21.1) 116(18.525,-21.1) 175(18.525,21.1) 176(17.875,21.1) 177(17.225,21.1) 178(16.575,21.1) 179(15.925,21.1) 180(15.275,21.1) 181(14.625,21.1) 182(13.975,21.1) 183(13.325,21.1) 184(12.675,21.1) 185(12.025,21.1) 186(11.375,21.1) 187(10.725,21.1) 188(10.075,21.1) 189(9.425,21.1) 190(8.775,21.1) 191(8.125,21.1) 192(7.475,21.1) 193(6.825,21.1) 194(6.175,21.1) 195(5.525,21.1) 196(4.875,21.1) 197(4.225,21.1) 198(3.575,21.1) 199(2.925,21.1) 200(2.275,21.1) 201(1.625,21.1) 202(0.975,21.1) 203(0.325,21.1) 204(-0.325,21.1) 205(-0.975,21.1) 206(-1.625,21.1) 207(-2.275,21.1) 208(-2.925,21.1) 209(-3.575,21.1) 210(-4.225,21.1) 211(-4.875,21.1) 212(-5.525,21.1) 213(-6.175,21.1) 214(-6.825,21.1) 215(-7.475,21.1) 216(-8.125,21.1) 217(-8.775,21.1) 218(-9.425,21.1) 219(-10.075,21.1) 220(-10.725,21.1) 221(-11.375,21.1) 222(-12.025,21.1) 223(-12.675,21.1) 224(-13.325,21.1) 225(-13.975,21.1) 226(-14.625,21.1) 227(-15.275,21.1) 228(-15.925,21.1) 229(-16.575,21.1) 230(-17.225,21.1) 231(-17.875,21.1) 232(-18.525,21.1)
Top Overlay:
  circle w0.6: c-18.85,18.85 r0.3
  circle w0.25: c-21.1,19.3 r0.125
  lines w0.2: -19.85,-19.85 19.85,-19.85 19.85,19.85 -19.85,19.85 -19.85,-19.85
Mechanical 13:
  circle w0.1: c-19.1,19.1 r0.5
  lines w0.1: -20,-20 20,-20 20,20 -20,20 -20,-20
Mechanical 15:
  lines w0.1: -0.5,0 0.5,0 ; 0,-0.5 0,0.5 ; -22,-22 22,-22 22,22 -22,22 -22,-22
3D body: height 4.2, standoff 0, extent -20,-20 20,20